# Altium footprint library 45xx.PCBLIB: 10 footprints
Each footprint in its own frame and in the unit in brackets; x right, y up, seen from the top. Pads: shape width x height; smd on the part's side, far side on the other; paste and mask are expansions set on the pad; w line width, h text height; cw(c..) or ccw(c..) is an arc to the next point about the centre after c.
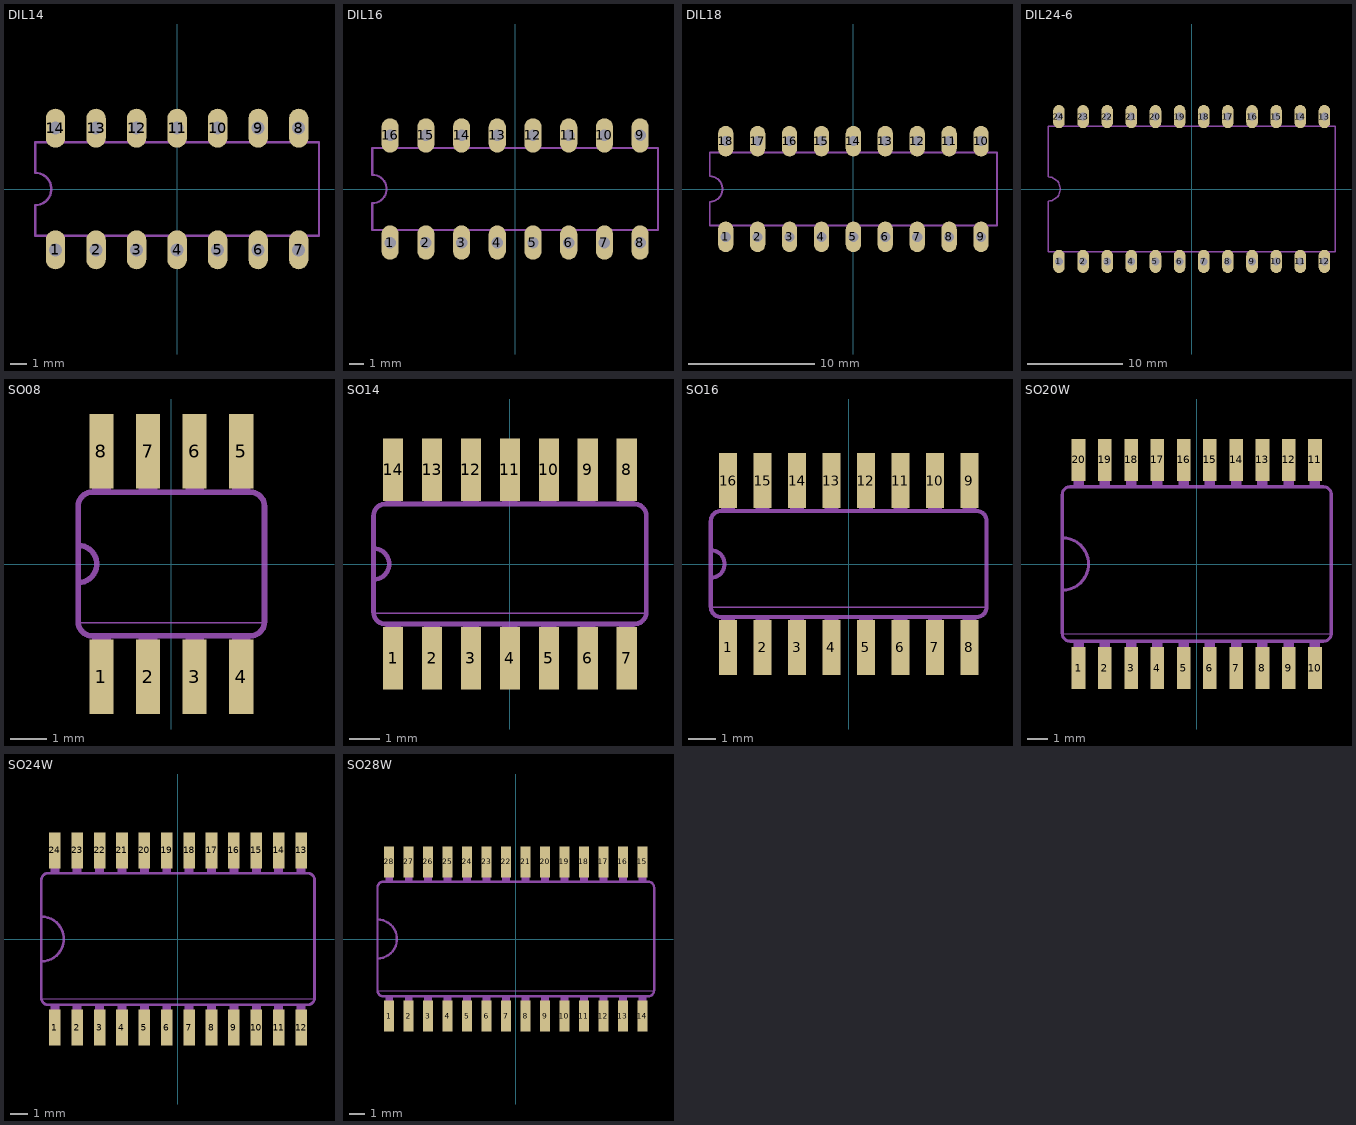
[diagram p0: the footprints below, top view; thin cyan lines are the x and y axes]

## DIL14 [mil]
pads (14):
  oval 48x96 hole 32: 1(-300,-150) 2(-200,-150) 3(-100,-150) 4(0,-150) 5(100,-150) 6(200,-150) 7(300,-150) 8(300,150) 9(200,150) 10(100,150) 11(0,150) 12(-100,150) 13(-200,150) 14(-300,150)
Mechanical 2:
  lines w6: -350,-115 350,-115 350,115 -350,115 -350,40 cw(c-350,0) -350,-40 -350,-115

## DIL16 [mil]
pads (16):
  oval 48x96 hole 32: 1(-350,-150) 2(-250,-150) 3(-150,-150) 4(-50,-150) 5(50,-150) 6(150,-150) 7(250,-150) 8(350,-150) 9(350,150) 10(250,150) 11(150,150) 12(50,150) 13(-50,150) 14(-150,150) 15(-250,150) 16(-350,150)
Mechanical 2:
  lines w6: -400,-115 400,-115 400,115 -400,115 -400,40 cw(c-400,0) -400,-40 -400,-115

## DIL18 [mil]
pads (18):
  oval 48x96 hole 32: 1(-400,-150) 2(-300,-150) 3(-200,-150) 4(-100,-150) 5(0,-150) 6(100,-150) 7(200,-150) 8(300,-150) 9(400,-150) 10(400,150) 11(300,150) 12(200,150) 13(100,150) 14(0,150) 15(-100,150) 16(-200,150) 17(-300,150) 18(-400,150)
Mechanical 2:
  lines w6: -450,-115 450,-115 450,115 -450,115 -450,40 cw(c-450,0) -450,-40 -450,-115

## DIL24-6 [mil]
pads (24):
  oval 48x96 hole 32: 1(-550,-300) 2(-450,-300) 3(-350,-300) 4(-250,-300) 5(-150,-300) 6(-50,-300) 7(50,-300) 8(150,-300) 9(250,-300) 10(350,-300) 11(450,-300) 12(550,-300) 13(550,300) 14(450,300) 15(350,300) 16(250,300) 17(150,300) 18(50,300) 19(-50,300) 20(-150,300) 21(-250,300) 22(-350,300) 23(-450,300) 24(-550,300)
Mechanical 2:
  lines w6: -595,-260 -595,-50 ccw(c-595,0) -595,50 -595,260 595,260 595,-260 -595,-260

## SO08 [mil]
pads (8):
  rect 26x80 smd: 1(-75,-121) 2(-25,-121) 3(25,-121) 4(75,-121) 5(75,121) 6(25,121) 7(-25,121) 8(-75,121)
Mechanical 2:
  lines w2: -100,-63 100,-63
  lines w6: -85,-77 cw(c-85,-62) -100,-62 -100,-20 ; -85,77 ccw(c-85,62) -100,62 -100,20 ; 85,-77 ccw(c85,-62) 100,-62 100,62 ccw(c85,62) 85,77 ; -100,-20 -100,20 ; -100,-20 ccw(c-100,0) -100,20
Mechanical 18:
  rectangle: 65,77 85,122
  rectangle: -85,-122 -65,-77
  rectangle: -35,-122 -15,-77
  rectangle: 15,-121 35,-76
  rectangle: 65,-122 85,-77
  rectangle: 15,77 35,122
  rectangle: -35,77 -15,122
  rectangle: -85,77 -65,122
  lines w6: -85,-77 85,-77 ; -85,77 85,77

## SO14 [mil]
pads (14):
  rect 26x80 smd: 1(-150,-121) 2(-100,-121) 3(-50,-121) 4(0,-121) 5(50,-121) 6(100,-121) 7(150,-121) 8(150,121) 9(100,121) 10(50,121) 11(0,121) 12(-50,121) 13(-100,121) 14(-150,121)
Mechanical 2:
  lines w2: -175,-63 175,-63
  lines w6: -160,-77 cw(c-160,-62) -175,-62 -175,-20 ; -160,77 ccw(c-160,62) -175,62 -175,20 ; 160,-77 ccw(c160,-62) 175,-62 175,62 ccw(c160,62) 160,77 ; -175,-20 -175,20 ; -175,-20 ccw(c-175,0) -175,20
Mechanical 18:
  rectangle: -10,77 10,122
  rectangle: -160,-122 -140,-77
  rectangle: -110,-122 -90,-77
  rectangle: -60,-121 -40,-76
  rectangle: -10,-122 10,-77
  rectangle: -60,77 -40,122
  rectangle: -110,77 -90,122
  rectangle: -160,77 -140,122
  rectangle: 40,77 60,122
  rectangle: 90,77 110,122
  rectangle: 140,77 160,122
  rectangle: 40,-122 60,-77
  rectangle: 90,-122 110,-77
  rectangle: 140,-122 160,-77
  lines w6: -160,-77 160,-77 ; -160,77 160,77

## SO16 [mil]
pads (16):
  rect 26x80 smd: 1(-175,-121) 2(-125,-121) 3(-75,-121) 4(-25,-121) 5(25,-121) 6(75,-121) 7(125,-121) 8(175,-121) 9(175,121) 10(125,121) 11(75,121) 12(25,121) 13(-25,121) 14(-75,121) 15(-125,121) 16(-175,121)
Mechanical 2:
  lines w2: -200,-63 200,-63
  lines w6: -185,-77 cw(c-185,-62) -200,-62 -200,-20 ; -185,77 ccw(c-185,62) -200,62 -200,20 ; 185,-77 ccw(c185,-62) 200,-62 200,62 ccw(c185,62) 185,77 ; -200,-20 -200,20 ; -200,-20 ccw(c-200,0) -200,20
Mechanical 18:
  rectangle: -35,77 -15,122
  rectangle: -185,-122 -165,-77
  rectangle: -135,-122 -115,-77
  rectangle: -85,-121 -65,-76
  rectangle: -35,-122 -15,-77
  rectangle: -85,77 -65,122
  rectangle: -135,77 -115,122
  rectangle: -185,77 -165,122
  rectangle: 15,-122 35,-77
  rectangle: 65,-122 85,-77
  rectangle: 115,-122 135,-77
  rectangle: 165,-122 185,-77
  rectangle: 15,77 35,122
  rectangle: 65,77 85,122
  rectangle: 115,77 135,122
  rectangle: 165,77 185,122
  lines w6: -185,-77 185,-77 ; -185,77 185,77

## SO20W [mil]
pads (20):
  rect 26x80 smd: 1(-225,-198) 2(-175,-198) 3(-125,-198) 4(-75,-198) 5(-25,-198) 6(25,-198) 7(75,-198) 8(125,-198) 9(175,-198) 10(225,-198) 11(225,198) 12(175,198) 13(125,198) 14(75,198) 15(25,198) 16(-25,198) 17(-75,198) 18(-125,198) 19(-175,198) 20(-225,198)
Mechanical 2:
  lines w2: -255,-133 255,-133
  lines w6: -241,-147 cw(c-241,-132) -256,-132 -256,-50 ; -241,147 ccw(c-241,132) -256,132 -256,50 ; 241,-147 ccw(c241,-132) 256,-132 256,132 ccw(c241,132) 241,147 ; -256,-50 -256,50 ; -256,-50 ccw(c-256,0) -256,50
Mechanical 18:
  rectangle: -235,-152 -215,-147
  rectangle: -235,-210 -215,-152
  rectangle: -185,-152 -165,-147
  rectangle: -185,-210 -165,-152
  rectangle: -135,-152 -115,-147
  rectangle: -135,-210 -115,-152
  rectangle: -85,-152 -65,-147
  rectangle: -85,-210 -65,-152
  rectangle: -35,-210 -15,-152
  rectangle: -35,-152 -15,-147
  rectangle: 15,-152 35,-147
  rectangle: 15,-210 35,-152
  rectangle: 65,-152 85,-147
  rectangle: 65,-210 85,-152
  rectangle: 115,-152 135,-147
  rectangle: 115,-210 135,-152
  rectangle: -235,152 -215,210
  rectangle: -235,147 -215,152
  rectangle: -185,147 -165,152
  rectangle: -185,152 -165,210
  rectangle: -135,147 -115,152
  rectangle: -135,152 -115,210
  rectangle: -85,147 -65,152
  rectangle: -85,152 -65,210
  rectangle: -35,147 -15,152
  rectangle: -35,152 -15,210
  rectangle: 15,147 35,152
  rectangle: 15,152 35,210
  rectangle: 65,147 85,152
  rectangle: 65,152 85,210
  rectangle: 115,147 135,152
  rectangle: 115,152 135,210
  rectangle: 165,147 185,152
  rectangle: 215,147 235,152
  rectangle: 165,152 185,210
  rectangle: 215,152 235,210
  rectangle: 165,-152 185,-147
  rectangle: 215,-152 235,-147
  rectangle: 165,-210 185,-152
  rectangle: 215,-210 235,-152
  lines w6: -241,-147 241,-147 ; -241,147 241,147

## SO24W [mil]
pads (24):
  rect 26x80 smd: 1(-275,-198) 2(-225,-198) 3(-175,-198) 4(-125,-198) 5(-75,-198) 6(-25,-198) 7(25,-198) 8(75,-198) 9(125,-198) 10(175,-198) 11(225,-198) 12(275,-198) 13(275,198) 14(225,198) 15(175,198) 16(125,198) 17(75,198) 18(25,198) 19(-25,198) 20(-75,198) 21(-125,198) 22(-175,198) 23(-225,198) 24(-275,198)
Mechanical 2:
  lines w2: -305,-133 305,-133
  lines w6: -290,-147 cw(c-290,-132) -305,-132 -305,-50 ; -290,147 ccw(c-290,132) -305,132 -305,50 ; 290,-147 ccw(c290,-132) 305,-132 305,132 ccw(c290,132) 290,147 ; -305,-50 -305,50 ; -305,-50 ccw(c-305,0) -305,50
Mechanical 18:
  rectangle: -285,-152 -265,-147
  rectangle: -285,-210 -265,-152
  rectangle: -235,-152 -215,-147
  rectangle: -235,-210 -215,-152
  rectangle: -185,-152 -165,-147
  rectangle: -185,-210 -165,-152
  rectangle: -135,-152 -115,-147
  rectangle: -135,-210 -115,-152
  rectangle: -85,-210 -65,-152
  rectangle: -85,-152 -65,-147
  rectangle: -35,-152 -15,-147
  rectangle: -35,-210 -15,-152
  rectangle: 15,-152 35,-147
  rectangle: 15,-210 35,-152
  rectangle: 65,-152 85,-147
  rectangle: 65,-210 85,-152
  rectangle: -285,152 -265,210
  rectangle: -285,147 -265,152
  rectangle: -235,147 -215,152
  rectangle: -235,152 -215,210
  rectangle: -185,147 -165,152
  rectangle: -185,152 -165,210
  rectangle: -135,147 -115,152
  rectangle: -135,152 -115,210
  rectangle: -85,147 -65,152
  rectangle: -85,152 -65,210
  rectangle: -35,147 -15,152
  rectangle: -35,152 -15,210
  rectangle: 15,147 35,152
  rectangle: 15,152 35,210
  rectangle: 65,147 85,152
  rectangle: 65,152 85,210
  rectangle: 115,147 135,152
  rectangle: 165,147 185,152
  rectangle: 215,147 235,152
  rectangle: 265,147 285,152
  rectangle: 115,152 135,210
  rectangle: 165,152 185,210
  rectangle: 215,152 235,210
  rectangle: 265,152 285,210
  rectangle: 115,-152 135,-147
  rectangle: 165,-152 185,-147
  rectangle: 215,-152 235,-147
  rectangle: 265,-152 285,-147
  rectangle: 115,-210 135,-152
  rectangle: 165,-210 185,-152
  rectangle: 215,-210 235,-152
  rectangle: 265,-210 285,-152
  lines w6: -290,-147 290,-147 ; -290,147 290,147

## SO28W [mil]
pads (28):
  rect 26x80 smd: 1(-325,-198) 2(-275,-198) 3(-225,-198) 4(-175,-198) 5(-125,-198) 6(-75,-198) 7(-25,-198) 8(25,-198) 9(75,-198) 10(125,-198) 11(175,-198) 12(225,-198) 13(275,-198) 14(325,-198) 15(325,198) 16(275,198) 17(225,198) 18(175,198) 19(125,198) 20(75,198) 21(25,198) 22(-25,198) 23(-75,198) 24(-125,198) 25(-175,198) 26(-225,198) 27(-275,198) 28(-325,198)
Mechanical 2:
  lines w2: -355,-133 355,-133
  lines w6: -340,-147 cw(c-340,-132) -355,-132 -355,-50 ; -340,147 ccw(c-340,132) -355,132 -355,50 ; 340,-147 ccw(c340,-132) 355,-132 355,132 ccw(c340,132) 340,147 ; -355,-50 -355,50 ; -355,-50 ccw(c-355,0) -355,50
Mechanical 18:
  rectangle: -335,-152 -315,-147
  rectangle: -335,-210 -315,-152
  rectangle: -285,-152 -265,-147
  rectangle: -285,-210 -265,-152
  rectangle: -235,-152 -215,-147
  rectangle: -235,-210 -215,-152
  rectangle: -185,-152 -165,-147
  rectangle: -185,-210 -165,-152
  rectangle: -135,-210 -115,-152
  rectangle: -135,-152 -115,-147
  rectangle: -85,-152 -65,-147
  rectangle: -85,-210 -65,-152
  rectangle: -35,-152 -15,-147
  rectangle: -35,-210 -15,-152
  rectangle: 15,-152 35,-147
  rectangle: 15,-210 35,-152
  rectangle: -335,152 -315,210
  rectangle: -335,147 -315,152
  rectangle: -285,147 -265,152
  rectangle: -285,152 -265,210
  rectangle: -235,147 -215,152
  rectangle: -235,152 -215,210
  rectangle: -185,147 -165,152
  rectangle: -185,152 -165,210
  rectangle: -135,147 -115,152
  rectangle: -135,152 -115,210
  rectangle: -85,147 -65,152
  rectangle: -85,152 -65,210
  rectangle: -35,147 -15,152
  rectangle: -35,152 -15,210
  rectangle: 15,147 35,152
  rectangle: 15,152 35,210
  rectangle: 65,147 85,152
  rectangle: 115,147 135,152
  rectangle: 165,147 185,152
  rectangle: 215,147 235,152
  rectangle: 265,147 285,152
  rectangle: 315,147 335,152
  rectangle: 65,-152 85,-147
  rectangle: 115,-152 135,-147
  rectangle: 165,-152 185,-147
  rectangle: 215,-152 235,-147
  rectangle: 265,-152 285,-147
  rectangle: 315,-152 335,-147
  rectangle: 65,-210 85,-152
  rectangle: 115,-210 135,-152
  rectangle: 165,-210 185,-152
  rectangle: 215,-210 235,-152
  rectangle: 265,-210 285,-152
  rectangle: 315,-210 335,-152
  rectangle: 65,152 85,210
  rectangle: 115,152 135,210
  rectangle: 165,152 185,210
  rectangle: 215,152 235,210
  rectangle: 265,152 285,210
  rectangle: 315,152 335,210
  lines w6: -340,-147 340,-147 ; -340,147 340,147